# Altium schematic symbol library 28C64AXX-XXXP.SchLib: 1 symbol
Pins are listed as number, name and electrical type; pins without a type are passive.

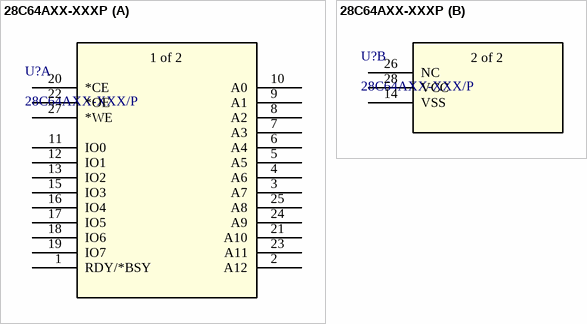
[diagram p0: symbol 28C64AXX-XXXP]

## 28C64AXX-XXXP
designator U?, comment 28C64AXX-XXX/P
No Description Available; Manufacturer_Name: Microchip; Copyright: Copyright (C) 2025 Ultra Librarian. All rights reserved.; Manufacturer_Part_Number: 28C64AXX-XXX/P; RefDes: RefDes; Type: Type
footprint PDIP28_600MC_MCH
part A pins: 1 RDY/*BSY, 2 A12, 3 A7, 4 A6, 5 A5, 6 A4, 7 A3, 8 A2, 9 A1, 10 A0, 11 IO0, 12 IO1, 13 IO2, 15 IO3, 16 IO4, 17 IO5, 18 IO6, 19 IO7, 20 *CE, 21 A10, 22 *OE, 23 A11, 24 A9, 25 A8, 27 *WE
part B pins: 14 VSS, 26 NC, 28 VCC
part A text: 1 of 2
part B text: 2 of 2